# Altium footprint library Bel_rst_fuse_2Ahold.PcbLib: 1 footprints
Each footprint in its own frame and in the unit in brackets; x right, y up, seen from the top. Pads: shape width x height; smd on the part's side, far side on the other; paste and mask are expansions set on the pad; w line width, h text height; cw(c..) or ccw(c..) is an arc to the next point about the centre after c.
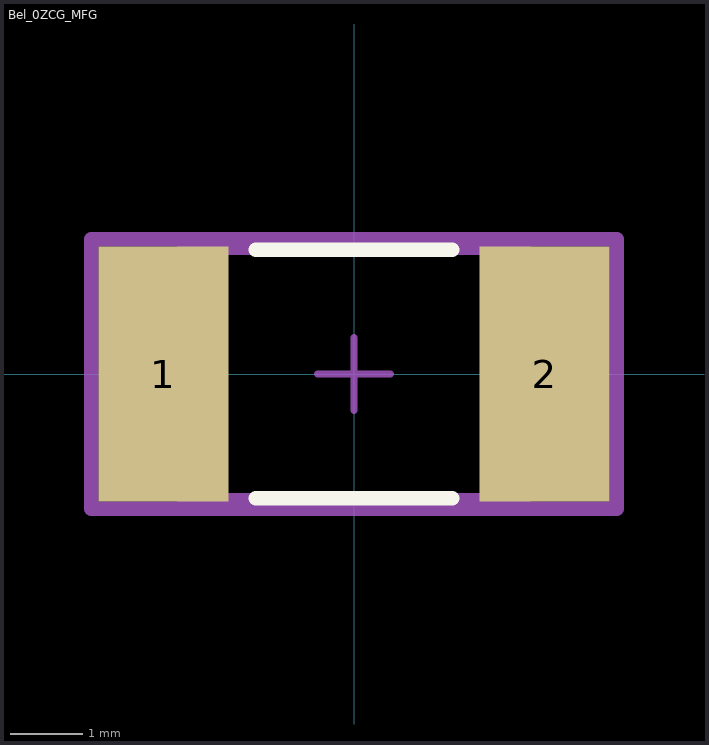
[diagram p0: the footprint, top view; thin cyan lines are the x and y axes]

## Bel_0ZCG_MFG [mm]
pads (2):
  rect 1.78x3.5 smd paste+0 mask+0: 1(-2.615,0) 2(2.615,0)
Top Overlay:
  lines w0.2: -1.35,-1.705 1.35,-1.705 ; -1.35,1.705 1.35,1.705
Mechanical 10:
  lines w0.2: -3.605,-1.85 -3.605,1.85 3.605,1.85 3.605,-1.85 -3.605,-1.85
  text ".Designator" at 0,0 h1
Mechanical 12:
  lines w0.15: -2.365,-1.705 -2.365,1.705 2.365,1.705 2.365,-1.705 -2.365,-1.705
Mechanical 15:
  lines w0.1: -0.5,0 0.5,0 ; 0,-0.5 0,0.5
  lines w0.2: -3.605,-1.85 -3.605,1.85 3.605,1.85 3.605,-1.85 -3.605,-1.85
3D body "Fuse_Bel_0ZCG0200AF2B_eec.STEP": height 0.25, standoff 0, extent -3.605,-1.85 3.605,1.85